# Altium footprint library STM32F103C8T6核心板.PcbLib: 18 footprints (part 1 of 2)
Each footprint in its own frame and in the unit in brackets; x right, y up, seen from the top. Pads: shape width x height; smd on the part's side, far side on the other; paste and mask are expansions set on the pad; w line width, h text height; cw(c..) or ccw(c..) is an arc to the next point about the centre after c.
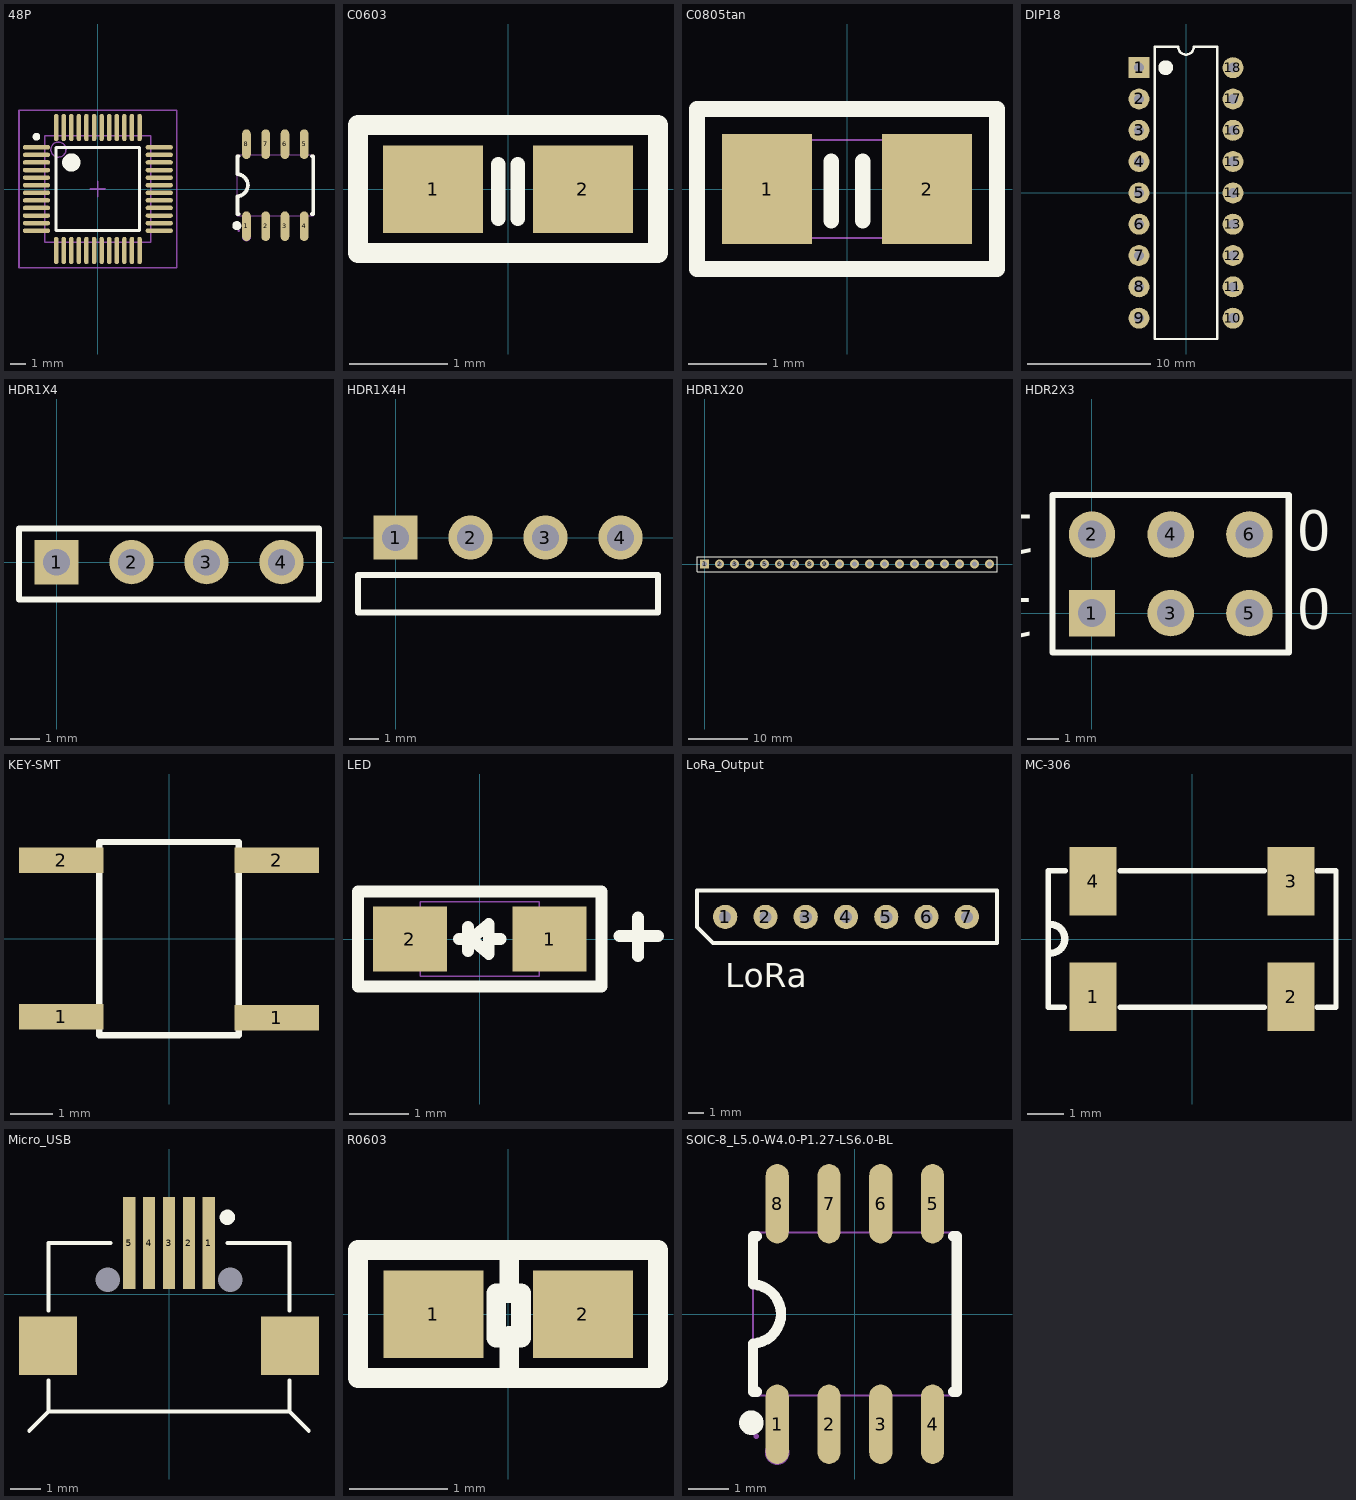
[diagram p0: the footprints below, top view; thin cyan lines are the x and y axes]

## 48P [mm]
height 4.32
pads (56):
  oval 1.8x0.3 smd: 1(-4.05,2.75) 2(-4.05,2.25) 3(-4.05,1.75) 4(-4.05,1.25) 5(-4.05,0.75) 6(-4.05,0.25) 7(-4.05,-0.25) 8(-4.05,-0.75) 9(-4.05,-1.25) 10(-4.05,-1.75) 11(-4.05,-2.25) 12(-4.05,-2.75) 25(4.05,-2.75) 26(4.05,-2.25) 27(4.05,-1.75) 28(4.05,-1.25) 29(4.05,-0.75) 30(4.05,-0.25) 31(4.05,0.25) 32(4.05,0.75) 33(4.05,1.25) 34(4.05,1.75) 35(4.05,2.25) 36(4.05,2.75)
  oval 0.568x1.95 smd mask+0.051: 1(9.802,-2.454) 2(11.072,-2.454) 3(12.342,-2.454) 4(13.612,-2.454) 5(13.612,2.956) 6(12.342,2.956) 7(11.072,2.956) 8(9.802,2.956)
  oval 0.3x1.8 smd: 13(-2.75,-4.05) 14(-2.25,-4.05) 15(-1.75,-4.05) 16(-1.25,-4.05) 17(-0.75,-4.05) 18(-0.25,-4.05) 19(0.25,-4.05) 20(0.75,-4.05) 21(1.25,-4.05) 22(1.75,-4.05) 23(2.25,-4.05) 24(2.75,-4.05) 37(2.75,4.05) 38(2.25,4.05) 39(1.75,4.05) 40(1.25,4.05) 41(0.75,4.05) 42(0.25,4.05) 43(-0.25,4.05) 44(-0.75,4.05) 45(-1.25,4.05) 46(-1.75,4.05) 47(-2.25,4.05) 48(-2.75,4.05)
Top Overlay:
  circle w0.3: c9.167,-2.416 r0.15
  circle w0.25: c-4.05,3.45 r0.125
  circle w0.6: c-1.75,1.75 r0.3
  lines w0.2: -2.75,-2.75 -2.75,2.75 2.75,2.75 2.75,-2.75 -2.75,-2.75
  lines w0.254: 9.207,0.977 9.207,1.751 9.207,2.156 9.299,2.156 ; 9.212,0.977 cw(c9.167,0.251) 9.207,-0.475 9.207,-1.249 9.207,-1.654 9.299,-1.654 ; 14.116,-1.654 14.207,-1.654 14.207,-1.249 14.207,1.751 14.207,2.156 14.116,2.156
Mechanical 6:
  circle w0.3: c9.802,-3.149 r0.15
Mechanical 13:
  circle w0.1: c-2.6,2.6 r0.5
  lines w0.1: -3.5,-3.5 -3.5,3.5 3.5,3.5 3.5,-3.5 -3.5,-3.5
Mechanical 15:
  region: 9.597,-2.749 9.597,-1.914 10.007,-1.914 10.007,-2.749
  region: 9.597,-1.924 9.597,-1.689 10.007,-1.689 10.007,-1.924
  region: 10.867,-2.749 10.867,-1.914 11.277,-1.914 11.277,-2.749
  region: 10.867,-1.924 10.867,-1.689 11.277,-1.689 11.277,-1.924
  region: 12.137,-2.749 12.137,-1.914 12.547,-1.914 12.547,-2.749
  region: 12.137,-1.924 12.137,-1.689 12.547,-1.689 12.547,-1.924
  region: 13.407,-2.749 13.407,-1.914 13.817,-1.914 13.817,-2.749
  region: 13.407,-1.924 13.407,-1.689 13.817,-1.689 13.817,-1.924
  region: 9.597,2.416 9.597,3.251 10.007,3.251 10.007,2.416
  region: 9.597,2.191 9.597,2.426 10.007,2.426 10.007,2.191
  region: 10.867,2.416 10.867,3.251 11.277,3.251 11.277,2.416
  region: 10.867,2.191 10.867,2.426 11.277,2.426 11.277,2.191
  region: 12.137,2.416 12.137,3.251 12.547,3.251 12.547,2.416
  region: 12.137,2.191 12.137,2.426 12.547,2.426 12.547,2.191
  region: 13.407,2.416 13.407,3.251 13.817,3.251 13.817,2.416
  region: 13.407,2.191 13.407,2.426 13.817,2.426 13.817,2.191
  region: 9.347,-2.749 9.347,-2.724 9.312,-2.689 9.262,-2.689 9.227,-2.724 9.227,-2.749 9.227,-2.774 9.262,-2.809 9.312,-2.809 9.347,-2.774
  lines w0.051: 9.207,-1.749 14.207,-1.749 14.207,2.251 9.207,2.251 9.207,-1.749
  lines w0.1: -0.5,0 0.5,0 ; 0,-0.5 0,0.5 ; -5.2,-5.2 -5.2,5.2 5.2,5.2 5.2,-5.2 -5.2,-5.2
3D body: height 1.6, standoff 0, extent -3.5,-3.5 3.5,3.5

## C0603 [mil]
height 170.08
pads (2):
  rect 40x35 smd: 1(-29.92,0) 2(29.92,0)
Top Overlay:
  lines w5.91: -3.94,-11.81 -3.94,9.84 ; 3.94,-11.81 3.94,9.84
  lines w7.87: -60,-25.59 60,-25.59 60,25.59 -60,25.59 -60,-25.59

## C0805tan [mil]
height 104.33
pads (2):
  rect 45x55 smd: 1(-40,0) 2(40,0)
Top Overlay:
  lines w7.87: -7.87,-15.75 -7.87,13.78 ; 7.87,-15.75 7.87,13.78 ; -75,-40 -75,40 75,40 75,-40 -75,-40
Mechanical 8:
  lines w1: -39.37,-24.61 -39.37,24.61 39.37,24.61 39.37,-24.61 -39.37,-24.61

## DIP18 [mm]
pads (18):
  rect 1.7x1.7 hole 0.8: 1(-3.81,10.16)
  round 1.7 hole 0.8: 2(-3.81,7.62) 3(-3.81,5.08) 4(-3.81,2.54) 5(-3.81,0) 6(-3.81,-2.54) 7(-3.81,-5.08) 8(-3.81,-7.62) 9(-3.81,-10.16) 10(3.81,-10.16) 11(3.81,-7.62) 12(3.81,-5.08) 13(3.81,-2.54) 14(3.81,0) 15(3.81,2.54) 16(3.81,5.08) 17(3.81,7.62) 18(3.81,10.16)
Top Overlay:
  circle w0.6: c-1.651,10.16 r0.3
  lines w0.2: -2.54,-11.85 -2.54,11.85 -0.635,11.85 ccw(c0,11.85) 0.635,11.85 2.54,11.85 2.54,-11.85 -2.54,-11.85
3D body "DIP18.STEP": height 4.35, standoff -3.09, extent -4,-11.543 4,11.557

## HDR1X4 [mm] "Connector; Header; 4 Position; Right Angle"
pads (4):
  rect 1.5x1.5 hole 0.9: 1(0,0)
  round 1.5 hole 0.9: 2(2.54,0) 3(5.08,0) 4(7.62,0)
Top Overlay:
  lines w0.2: -1.27,-1.27 8.89,-1.27 8.89,1.143 -1.27,1.143 -1.27,-1.27

## HDR1X4H [mm] "Connector; Header; 4 Position; Right Angle"
pads (4):
  rect 1.5x1.5 hole 0.9: 1(0,0)
  round 1.5 hole 0.9: 2(2.54,0) 3(5.08,0) 4(7.62,0)
Top Overlay:
  lines w0.2: -1.27,-2.54 8.89,-2.54 8.89,-1.27 -1.27,-1.27 -1.27,-2.54

## HDR1X20 [mm] "Connector; Header; 20 Position"
height 4.32
pads (20):
  rect 1.5x1.5 hole 0.9: 1(0,0)
  round 1.5 hole 0.9: 2(2.54,0) 3(5.08,0) 4(7.62,0) 5(10.16,0) 6(12.7,0) 7(15.24,0) 8(17.78,0) 9(20.32,0) 10(22.86,0) 11(25.4,0) 12(27.94,0) 13(30.48,0) 14(33.02,0) 15(35.56,0) 16(38.1,0) 17(40.64,0) 18(43.18,0) 19(45.72,0) 20(48.26,0)
Top Overlay:
  lines w0.2: -1.27,-1.27 -1.27,1.27 0.635,1.27 49.53,1.27 49.53,-1.27 -1.27,-1.27

## HDR2X3 [mm] "Connector; Header; 3x2 Position"
height 4.32
pads (6):
  rect 1.5x1.5 hole 0.9: 1(0,0)
  round 1.5 hole 0.9: 2(0,2.54) 3(2.54,0) 4(2.54,2.54) 5(5.08,0) 6(5.08,2.54)
Top Overlay:
  lines w0.2: 1.482,-1.27 6.35,-1.27 ; 6.35,-1.27 6.35,3.81 -1.27,3.81 -1.27,-1.27 6.35,-1.27
  text "0" at 6.604,2.032 h1.27
  text "0" at 6.604,-0.508 h1.27
  text "1" at -1.778,3.175 h1.27
  text "1" at -1.807,0.486 h1.27

## KEY-SMT [mm]
height 4.32
pads (4):
  rect 2x0.6 smd: 1(-2.55,-1.85) 1(2.55,-1.87) 2(-2.55,1.85) 2(2.55,1.85)
Top Overlay:
  lines w0.152: -1.651,-2.286 -1.651,2.286 1.651,2.286 1.651,-2.286 -1.651,-2.286

## LED [mil]
height 170.08
pads (2):
  rect 49x43 smd: 1(46.26,0) 2(-46.26,0)
Top Overlay:
  lines w7.87: -13.78,0 -5.91,0 ; -7.87,-7.87 -7.87,7.87 ; 5.91,0 13.78,0 ; 92.52,1.97 118.11,1.97 ; 104.75,-11.44 104.75,14.15 ; -5.91,0 5.91,9.84 5.91,-9.84 -5.91,0 ; -80.71,-31.5 80.71,-31.5 80.71,31.5 -80.71,31.5 -80.71,-31.5
Mechanical 8:
  lines w1: -39.37,-24.61 39.37,-24.61 39.37,24.61 -39.37,24.61 -39.37,-24.61

## LoRa_Output [mil]
pads (7):
  round 60 hole 30: 1(150,-400) 2(250,-400) 3(350,-400) 4(450,-400) 5(550,-400) 6(650,-400) 7(750,-400)
Top Overlay:
  lines w10: 80,-425 120,-465 825,-465 825,-335 80,-335 80,-425
  text "LoRa" at 150,-575 h60

## MC-306 [mm]
height 1.6
pads (4):
  rect 1.3x1.9 smd: 1(-2.75,-1.6) 2(2.75,-1.6) 3(2.75,1.6) 4(-2.75,1.6)
Top Overlay:
  lines w0.152: -3.556,-1.9 -4,-1.9 -4,1.9 -3.531,1.9 ; -2,-1.9 2,-1.9 ; -2,1.9 2,1.9 ; 3.48,-1.9 4,-1.9 4,1.9 3.48,1.9
  lines w0.2: -3.937,-0.394 ccw(c-3.937,0.006) -3.937,0.406

## Micro_USB [mm]
height 4.32
pads (9):
  rect 0.4x3 smd: 1(1.3,1.679) 2(0.65,1.679) 3(0,1.679) 4(-0.65,1.679) 5(-1.3,1.679)
  round 0 hole 0.8 unplated: MH1(2,0.471) MH2(-2,0.471)
  rect 1.9x1.9 smd: ""(-3.95,-1.679) ""(3.95,-1.679)
Top Overlay:
  circle w0.25: c1.905,2.519 r0.125
  lines w0.127: -4.567,-4.459 -3.937,-3.829 -3.937,-2.813 ; -3.937,-0.527 -3.937,1.679 ; -3.9,-3.829 3.9,-3.829 ; -3.9,1.679 -1.905,1.679 ; 1.905,1.679 3.9,1.679 ; 3.937,-2.813 3.937,-3.829 4.567,-4.459 ; 3.937,-0.527 3.937,1.679

## PCBComponent_1 [mm]

## R0603 [mil]
height 170.08
pads (2):
  rect 40x35 smd: 1(-29.92,0) 2(29.92,0)
Top Overlay:
  lines w7.87: 0.39,-21.65 0.39,-8.66 ; 0.39,9.45 0.39,21.65 ; -60.07,-25.59 -60.07,25.59 59.93,25.59 59.93,-25.59 -60.07,-25.59 ; -4.72,-9.45 5.12,-9.45 5.12,8.27 -4.72,8.27 -4.72,-9.45

## SOIC-8_L5.0-W4.0-P1.27-LS6.0-BL [mil]
pads (8):
  oval 22.38x76.78 smd mask+2: 1(-75,-106.5) 2(-25,-106.5) 3(25,-106.5) 4(75,-106.5) 5(75,106.5) 6(25,106.5) 7(-25,106.5) 8(-75,106.5)
Top Overlay:
  circle w11.81: c-100,-105 r5.91
  lines w10: -98.43,-28.61 ccw(c-99.99,0) -98.23,28.59 ; -98.42,-28.61 -98.42,-59.05 -98.42,-75 -94.83,-75 ; -98.42,28.59 -98.42,59.05 -98.42,75 -94.83,75 ; 94.83,-75 98.42,-75 98.42,-59.05 98.42,59.05 98.42,75 94.83,75
Mechanical 6:
  circle w11.81: c-75,-133.86 r5.91
Mechanical 15:
  region: -92.92,-118.11 -92.92,-117.13 -94.3,-115.75 -96.26,-115.75 -97.64,-117.13 -97.64,-118.11 -97.64,-119.09 -96.26,-120.47 -94.3,-120.47 -92.92,-119.09
  region: 66.93,76.38 66.93,85.63 83.07,85.63 83.07,76.38
  region: 66.93,85.24 66.93,118.11 83.07,118.11 83.07,85.24
  region: 16.93,76.38 16.93,85.63 33.07,85.63 33.07,76.38
  region: 16.93,85.24 16.93,118.11 33.07,118.11 33.07,85.24
  region: -33.07,76.38 -33.07,85.63 -16.93,85.63 -16.93,76.38
  region: -33.07,85.24 -33.07,118.11 -16.93,118.11 -16.93,85.24
  region: -83.07,76.38 -83.07,85.63 -66.93,85.63 -66.93,76.38
  region: -83.07,85.24 -83.07,118.11 -66.93,118.11 -66.93,85.24
  region: 66.93,-85.63 66.93,-76.38 83.07,-76.38 83.07,-85.63
  region: 66.93,-118.11 66.93,-85.24 83.07,-85.24 83.07,-118.11
  region: 16.93,-85.63 16.93,-76.38 33.07,-76.38 33.07,-85.63
  region: 16.93,-118.11 16.93,-85.24 33.07,-85.24 33.07,-118.11
  region: -33.07,-85.63 -33.07,-76.38 -16.93,-76.38 -16.93,-85.63
  region: -33.07,-118.11 -33.07,-85.24 -16.93,-85.24 -16.93,-118.11
  region: -83.07,-85.63 -83.07,-76.38 -66.93,-76.38 -66.93,-85.63
  region: -83.07,-118.11 -83.07,-85.24 -66.93,-85.24 -66.93,-118.11
  lines w2: -98.42,-78.74 -98.42,78.74 98.42,78.74 98.42,-78.74 -98.42,-78.74